# EAGLE library part LM358 (library IC)
Dual OpAmp
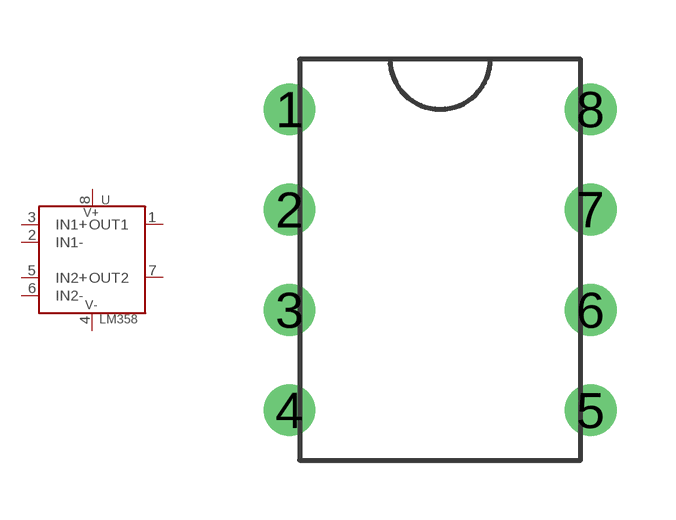
[diagram p6: symbol with the pads of DIP-8; footprint DIP-8]

Designator prefix U

## LM358DIP (MPN: LM358N)  [DIP-8]
1  OUT1
2  IN1-
3  IN1+
4  V-
5  IN2+
6  IN2-
7  OUT2
8  V+

## Footprint DIP-8 (pad centres in mm)
drill 0.8: 1 -3.81,3.81; 2 -3.81,1.27; 3 -3.81,-1.27; 4 -3.81,-3.81; 5 3.81,-3.81; 6 3.81,-1.27; 7 3.81,1.27; 8 3.81,3.81